# Altium footprint library phoenix-c1-pcblib1.PcbLib: 5 footprints
Each footprint in its own frame and in the unit in brackets; x right, y up, seen from the top. Pads: shape width x height; smd on the part's side, far side on the other; paste and mask are expansions set on the pad; w line width, h text height; cw(c..) or ccw(c..) is an arc to the next point about the centre after c.
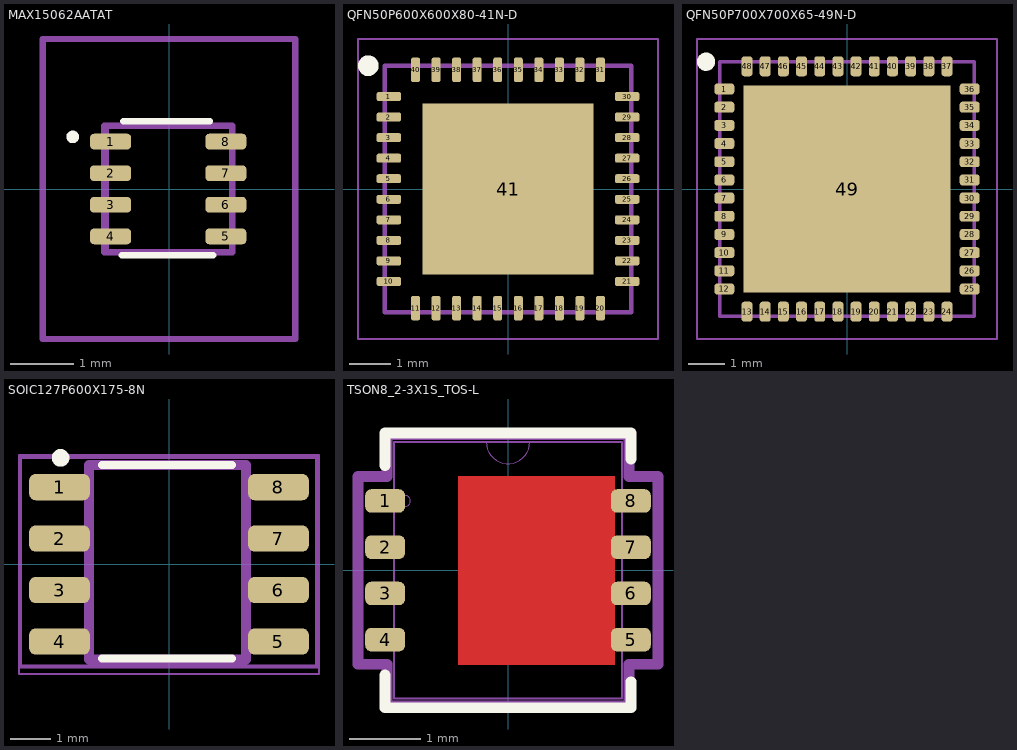
[diagram p0: the footprints below, top view; thin cyan lines are the x and y axes]

## MAX15062AATAT [mm]
pads (8):
  rrect50% 0.65x0.25 smd mask+0.05: 1(-0.925,0.75) 2(-0.925,0.25) 3(-0.925,-0.25) 4(-0.925,-0.75) 5(0.9,-0.75) 6(0.9,-0.25) 7(0.9,0.25) 8(0.9,0.75)
Top Overlay:
  lines w0.1: -1.575,0.825 cw(c-1.525,0.825) -1.475,0.825 cw(c-1.525,0.825) -1.572,0.842 ; -0.75,-1.05 0.7,-1.05 ; -0.725,1.075 0.65,1.075
Top 3D Body:
  lines w0.1: -1.025,-1 -1.025,1 1,1 1,-1 -1.025,-1
  text "1" at -0.4,0.65 h0.2
Mechanical 15:
  lines w0.1: -1,-1 -1,1 1,1 1,-1 -1,-1
Mechanical 20:
  lines w0.1: -2,-2.375 -2,2.375 2,2.375 2,-2.375 -2,-2.375
Top Designator (Mech29):
  text ".Designator" at 0.008,-1.225 h0.25
3D body "MAX15062AATA+T.stp": height 0.77, standoff -0.03, extent -1,-1 1,1

## QFN50P600X600X80-41N-D [mm]
pads (41):
  rrect50% 0.6x0.22 smd: 1(-2.9,2.25) 2(-2.9,1.75) 3(-2.9,1.25) 4(-2.9,0.75) 5(-2.9,0.25) 6(-2.9,-0.25) 7(-2.9,-0.75) 8(-2.9,-1.25) 9(-2.9,-1.75) 10(-2.9,-2.25) 21(2.9,-2.25) 22(2.9,-1.75) 23(2.9,-1.25) 24(2.9,-0.75) 25(2.9,-0.25) 26(2.9,0.25) 27(2.9,0.75) 28(2.9,1.25) 29(2.9,1.75) 30(2.9,2.25)
  rrect50% 0.22x0.6 smd: 11(-2.25,-2.9) 12(-1.75,-2.9) 13(-1.25,-2.9) 14(-0.75,-2.9) 15(-0.25,-2.9) 16(0.25,-2.9) 17(0.75,-2.9) 18(1.25,-2.9) 19(1.75,-2.9) 20(2.25,-2.9) 31(2.25,2.9) 32(1.75,2.9) 33(1.25,2.9) 34(0.75,2.9) 35(0.25,2.9) 36(-0.25,2.9) 37(-0.75,2.9) 38(-1.25,2.9) 39(-1.75,2.9) 40(-2.25,2.9)
  rect 4.15x4.15 smd: 41(0,0)
Top Overlay:
  circle w0.25: c-3.4,3 r0.125
Mechanical 15:
  lines w0.1: -3,-3 3,-3 3,3 -3,3 -3,-3
Mechanical 20:
  lines w0.05: -3.65,-3.65 3.65,-3.65 3.65,3.65 -3.65,3.65 -3.65,-3.65
Top Designator (Mech29):
  text ".Designator" at -1.25,-0.083 h0.25
3D body "DRV8323SRTAR.stp": height 0.8, standoff 0, extent -3.05,-3.05 3.05,3.05

## QFN50P700X700X65-49N-D [mm]
pads (49):
  rrect50% 0.55x0.3 smd mask+0.05: 1(-3.375,2.75) 2(-3.375,2.25) 3(-3.375,1.75) 4(-3.375,1.25) 5(-3.375,0.75) 6(-3.375,0.25) 7(-3.375,-0.25) 8(-3.375,-0.75) 9(-3.375,-1.25) 10(-3.375,-1.75) 11(-3.375,-2.25) 12(-3.375,-2.75) 25(3.375,-2.75) 26(3.375,-2.25) 27(3.375,-1.75) 28(3.375,-1.25) 29(3.375,-0.75) 30(3.375,-0.25) 31(3.375,0.25) 32(3.375,0.75) 33(3.375,1.25) 34(3.375,1.75) 35(3.375,2.25) 36(3.375,2.75)
  rrect50% 0.3x0.55 smd mask+0.05: 13(-2.75,-3.375) 14(-2.25,-3.375) 15(-1.75,-3.375) 16(-1.25,-3.375) 17(-0.75,-3.375) 18(-0.25,-3.375) 19(0.25,-3.375) 20(0.75,-3.375) 21(1.25,-3.375) 22(1.75,-3.375) 23(2.25,-3.375) 24(2.75,-3.375) 37(2.75,3.375) 38(2.25,3.375) 39(1.75,3.375) 40(1.25,3.375) 41(0.75,3.375) 42(0.25,3.375) 43(-0.25,3.375) 44(-0.75,3.375) 45(-1.25,3.375) 46(-1.75,3.375) 47(-2.25,3.375) 48(-2.75,3.375)
  rect 5.7x5.7 smd mask+0.05: 49(0,0)
Top Overlay:
  circle w0.25: c-3.875,3.5 r0.125
Mechanical 15:
  lines w0.1: -3.5,-3.5 -3.5,3.5 3.5,3.5 3.5,-3.5 -3.5,-3.5
Mechanical 20:
  lines w0.05: -4.125,-4.125 -4.125,4.125 4.125,4.125 4.125,-4.125 -4.125,-4.125
Top Designator (Mech29):
  text ".Designator" at -1.004,-0.112 h0.25
3D body "STM32G431CBU6.stp": height 0.57, standoff 0, extent -3.5,-3.5 3.5,3.5

## SOIC127P600X175-8N [mm]
pads (8):
  rrect50% 1.5x0.65 smd: 1(-2.7,1.905) 2(-2.7,0.635) 3(-2.7,-0.635) 4(-2.7,-1.905) 5(2.7,-1.905) 6(2.7,-0.635) 7(2.7,0.635) 8(2.7,1.905)
Top Overlay:
  circle w0.254: c-2.675,2.625 r0.09
  lines w0.2: -1.65,-2.325 1.55,-2.325 ; -1.65,2.45 1.55,2.45
Top 3D Body:
  lines w0.254: -1.975,-2.35 -1.975,2.45 1.9,2.45 1.9,-2.35 -1.975,-2.35
  text "1" at -1.55,1.7 h0.4
Mechanical 15:
  lines w0.1: -3.675,-2.525 3.65,-2.525 3.65,2.65 -3.675,2.65 -3.675,-2.525
Mechanical 20:
  lines w0.05: -3.7,-2.7 3.7,-2.7 3.7,2.7 -3.7,2.7 -3.7,-2.7
Top Designator (Mech29):
  text ".Designator" at 0.037,-1.004 h0.25
3D body "AS5600-ASOM.stp": height 1.75, standoff 0, extent -3,-2.413 3,2.487

## TSON8_2-3X1S_TOS-L [mil]
pads (8):
  rrect50% 22x13 smd paste+0 mask+0: 1(-68,38.39) 2(-68,12.8) 3(-68,-12.8) 4(-68,-38.39) 5(68,-38.39) 6(68,-12.8) 7(68,12.8) 8(68,38.39)
Top Layer:
  region: 59,-52.17 59,52.17 -27.43,52.17 -27.43,-52.17
Top Overlay:
  lines w6: -68,-57.99 -68,-76 68,-76 68,-61.68 ; -68,57.99 -68,76 68,76 68,61.68
Top Paste:
  region: 59,-52.17 59,52.17 -27.43,52.17 -27.43,-52.17
Top Solder:
  region: 59,-52.17 59,52.17 -27.43,52.17 -27.43,-52.17
Mechanical 13:
  circle w0: c-57,38.39 r3
  lines w0: -12,71 ccw(c0,71) 12,71
  lines w1: -63,-71 -63,71 63,71 63,-71 -63,-71
Mechanical 15:
  lines w6: -83,-51.98 -67,-51.98 -67,-75 67,-75 67,-51.98 83,-51.98 83,51.98 67,51.98 67,75 -67,75 -67,51.98 -83,51.98 -83,-51.98
Top Designator (Mech29):
  text ".Designator" at -38.06,-43.29 h9.84
3D body "TSON8_2-3X1S_TOS.step": height 35.12, standoff 0, extent -70.98,-70.98 70.98,70.98